# EAGLE library part 74HC595_SMDDIP_COMBO (library kalshagar)
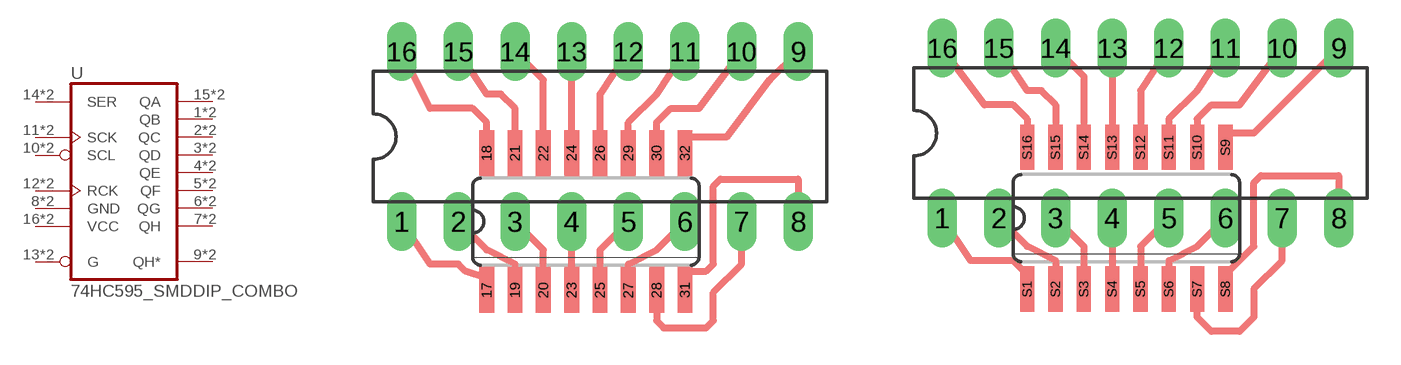
[diagram p3: symbol with the pads of DIL16_SO16_PAC; footprints DIL16_SO16_PAC, DIL16_SO16_PAC2]

Designator prefix -

## 74HC595_SMDDIP_COMBO  [DIL16_SO16_PAC]
1  QB  hiz
2  QC  hiz
3  QD  hiz
4  QE  hiz
5  QF  hiz
6  QG  hiz
7  QH  hiz
8  GND  pwr
9  QH*  hiz
10  SCL  in
11  SCK  in
12  RCK  in
13  G  in
14  SER  in
15  QA  hiz
16  VCC  pwr
17  QB  hiz
18  QC  hiz
19  QD  hiz
20  QE  hiz
21  QF  hiz
22  QG  hiz
23  QH  hiz
24  GND  pwr
25  QH*  hiz
26  SCL  in
27  SCK  in
28  RCK  in
29  G  in
30  SER  in
31  QA  hiz
32  VCC  pwr

## 74HC595_SMDDIP_COMBOTHINPAD  [DIL16_SO16_PAC2]
1  QB  hiz
2  QC  hiz
3  QD  hiz
4  QE  hiz
5  QF  hiz
6  QG  hiz
7  QH  hiz
8  GND  pwr
9  QH*  hiz
10  SCL  in
11  SCK  in
12  RCK  in
13  G  in
14  SER  in
15  QA  hiz
16  VCC  pwr
S1  QB  hiz
S2  QC  hiz
S3  QD  hiz
S4  QE  hiz
S5  QF  hiz
S6  QG  hiz
S7  QH  hiz
S8  GND  pwr
S9  QH*  hiz
S10  SCL  in
S11  SCK  in
S12  RCK  in
S13  G  in
S14  SER  in
S15  QA  hiz
S16  VCC  pwr

## Footprint DIL16_SO16_PAC (pad centres in mm)
drill 0.813 long: 1 -8.89,-3.81; 2 -6.35,-3.81; 3 -3.81,-3.81; 4 -1.27,-3.81; 5 1.27,-3.81; 6 3.81,-3.81; 7 6.35,-3.81; 8 8.89,-3.81; 9 8.89,3.81; 10 6.35,3.81; 11 3.81,3.81; 12 1.27,3.81; 13 -1.27,3.81; 14 -3.81,3.81; 15 -6.35,3.81; 16 -8.89,3.81
smd 0.66 x 2.032: 17 -5.08,-6.883; 18 -5.08,-0.737; 19 -3.81,-6.883; 20 -2.54,-6.883; 21 -3.81,-0.737; 22 -2.54,-0.737; 23 -1.27,-6.883; 24 -1.27,-0.737; 25 0,-6.883; 26 0,-0.737; 27 1.27,-6.883; 28 2.54,-6.883; 29 1.27,-0.737; 30 2.54,-0.737; 31 3.81,-6.883; 32 3.81,-0.737

## Footprint DIL16_SO16_PAC2 (pad centres in mm)
drill 0.813 long: 1 -8.89,-2.54; 2 -6.35,-2.54; 3 -3.81,-2.54; 4 -1.27,-2.54; 5 1.27,-2.54; 6 3.81,-2.54; 7 6.35,-2.54; 8 8.89,-2.54; 9 8.89,5.08; 10 6.35,5.08; 11 3.81,5.08; 12 1.27,5.08; 13 -1.27,5.08; 14 -3.81,5.08; 15 -6.35,5.08; 16 -8.89,5.08
smd 0.635 x 2.032: S1 -5.08,-5.715; S2 -3.81,-5.715; S3 -2.54,-5.715; S4 -1.27,-5.715; S5 0,-5.715; S6 1.27,-5.715; S7 2.54,-5.715; S8 3.81,-5.715; S9 3.81,0.635; S10 2.54,0.635; S11 1.27,0.635; S12 0,0.635; S13 -1.27,0.635; S14 -2.54,0.635; S15 -3.81,0.635; S16 -5.08,0.635